# Altium footprint library SAMTEC-FTS-102-01-X-S.PcbLib: 1 footprints
Each footprint in its own frame and in the unit in brackets; x right, y up, seen from the top. Pads: shape width x height; smd on the part's side, far side on the other; paste and mask are expansions set on the pad; w line width, h text height; cw(c..) or ccw(c..) is an arc to the next point about the centre after c.
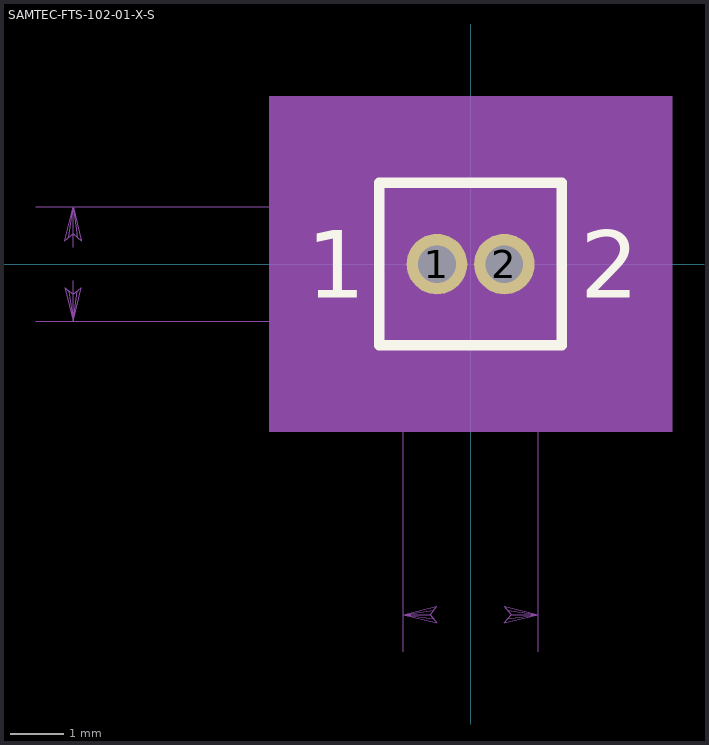
[diagram p0: the footprint, top view; thin cyan lines are the x and y axes]

## SAMTEC-FTS-102-01-X-S [mil]
pads (2):
  round 45 hole 27.95 mask+1.99: 1(-25,0) 2(25,0)
Top Overlay:
  lines w7.87: -67.72,-60.24 -67.72,60.24 67.72,60.24 67.72,-60.24 -67.72,-60.24
  text "1" at -121.65,-25 h50
  text "2" at 81.14,-25 h50
Mechanical 13:
  lines w0: -322.6,-42.52 -77.6,-42.52 ; -322.6,42.52 -77.6,42.52 ; -295,-12.52 -295,-42.52 ; -295,12.52 -295,42.52 ; -91.5,80 -25,80 ; -50,-287.6 -50,-70.12 ; -33.5,-260 -50,-260 ; -25,27.6 -25,107.6 ; 25,27.6 25,107.6 ; 33.5,-260 50,-260 ; 50,-287.6 50,-70.12 ; 75,80 25,80 ; -301.26,-17.48 -295,-42.52 ; -301.26,-17.48 -295,-22.52 ; -301.26,-17.48 -298.11,-20 -295,-42.52 ; -295,-42.52 -288.74,-17.48 -295,-22.52 ; -295,-42.52 -291.89,-20 -295,-22.52 ; -295,-42.52 -295,-22.52 ; -295,22.52 -301.26,17.48 -295,42.52 ; -295,22.52 -288.74,17.48 ; -295,22.52 -298.11,20 -295,42.52 ; -295,22.52 -295,42.52 ; -295,42.52 -288.74,17.48 ; -295,42.52 -291.89,20 -288.74,17.48 ; -50,-260 -25,-253.74 ; -50,-260 -25,-266.26 -30,-260 ; -50,-260 -27.48,-263.11 -30,-260 ; -50,-260 -30,-260 ; -50,-260 -27.48,-256.89 -25,-253.74 ; -50,73.74 -25,80 ; -50,73.74 -45,80 ; -50,73.74 -47.48,76.89 -25,80 ; -45,80 -50,86.26 -25,80 ; -45,80 -47.48,83.11 -25,80 ; -45,80 -25,80 ; -30,-260 -25,-253.74 ; 25,-266.26 50,-260 ; 25,-266.26 30,-260 ; 25,-266.26 27.48,-263.11 50,-260 ; 25,80 50,86.26 ; 25,80 50,73.74 45,80 ; 25,80 47.48,76.89 45,80 ; 25,80 45,80 ; 25,80 47.48,83.11 50,86.26 ; 30,-260 25,-253.74 50,-260 ; 30,-260 27.48,-256.89 50,-260 ; 30,-260 50,-260 ; 45,80 50,86.26
  lines w3.94: -67.72,-60.24 -67.72,60.24 67.72,60.24 67.72,-60.24 -67.72,-60.24 ; -50,-42.52 -50,42.52 0,42.52 50,42.52 50,-42.52 0,-42.52 -50,-42.52 ; -32.99,-7.99 -32.99,7.99 -17.01,7.99 -17.01,-7.99 -32.99,-7.99 ; 17.01,-7.99 32.99,-7.99 32.99,7.99 17.01,7.99 17.01,-7.99
  text "2.159" at -320.98,-5 h10
  text "1" at -121.65,-25 h50
  text "1.270" at -150.98,75 h10
  text "2.540" at -25.98,-265 h10
  text "2" at 81.14,-25 h50
Mechanical 15:
  region: 76.97,-69.49 -76.97,-69.49 -76.97,69.49 76.97,69.49
Mechanical 16:
  region: 149.53,-124.53 -149.53,-124.53 -149.53,124.53 149.53,124.53